# Altium integrated library Linear Technology Power Management System Supervisor, Monitor and Control.IntLib: 1611 symbols (part 98 of 100)
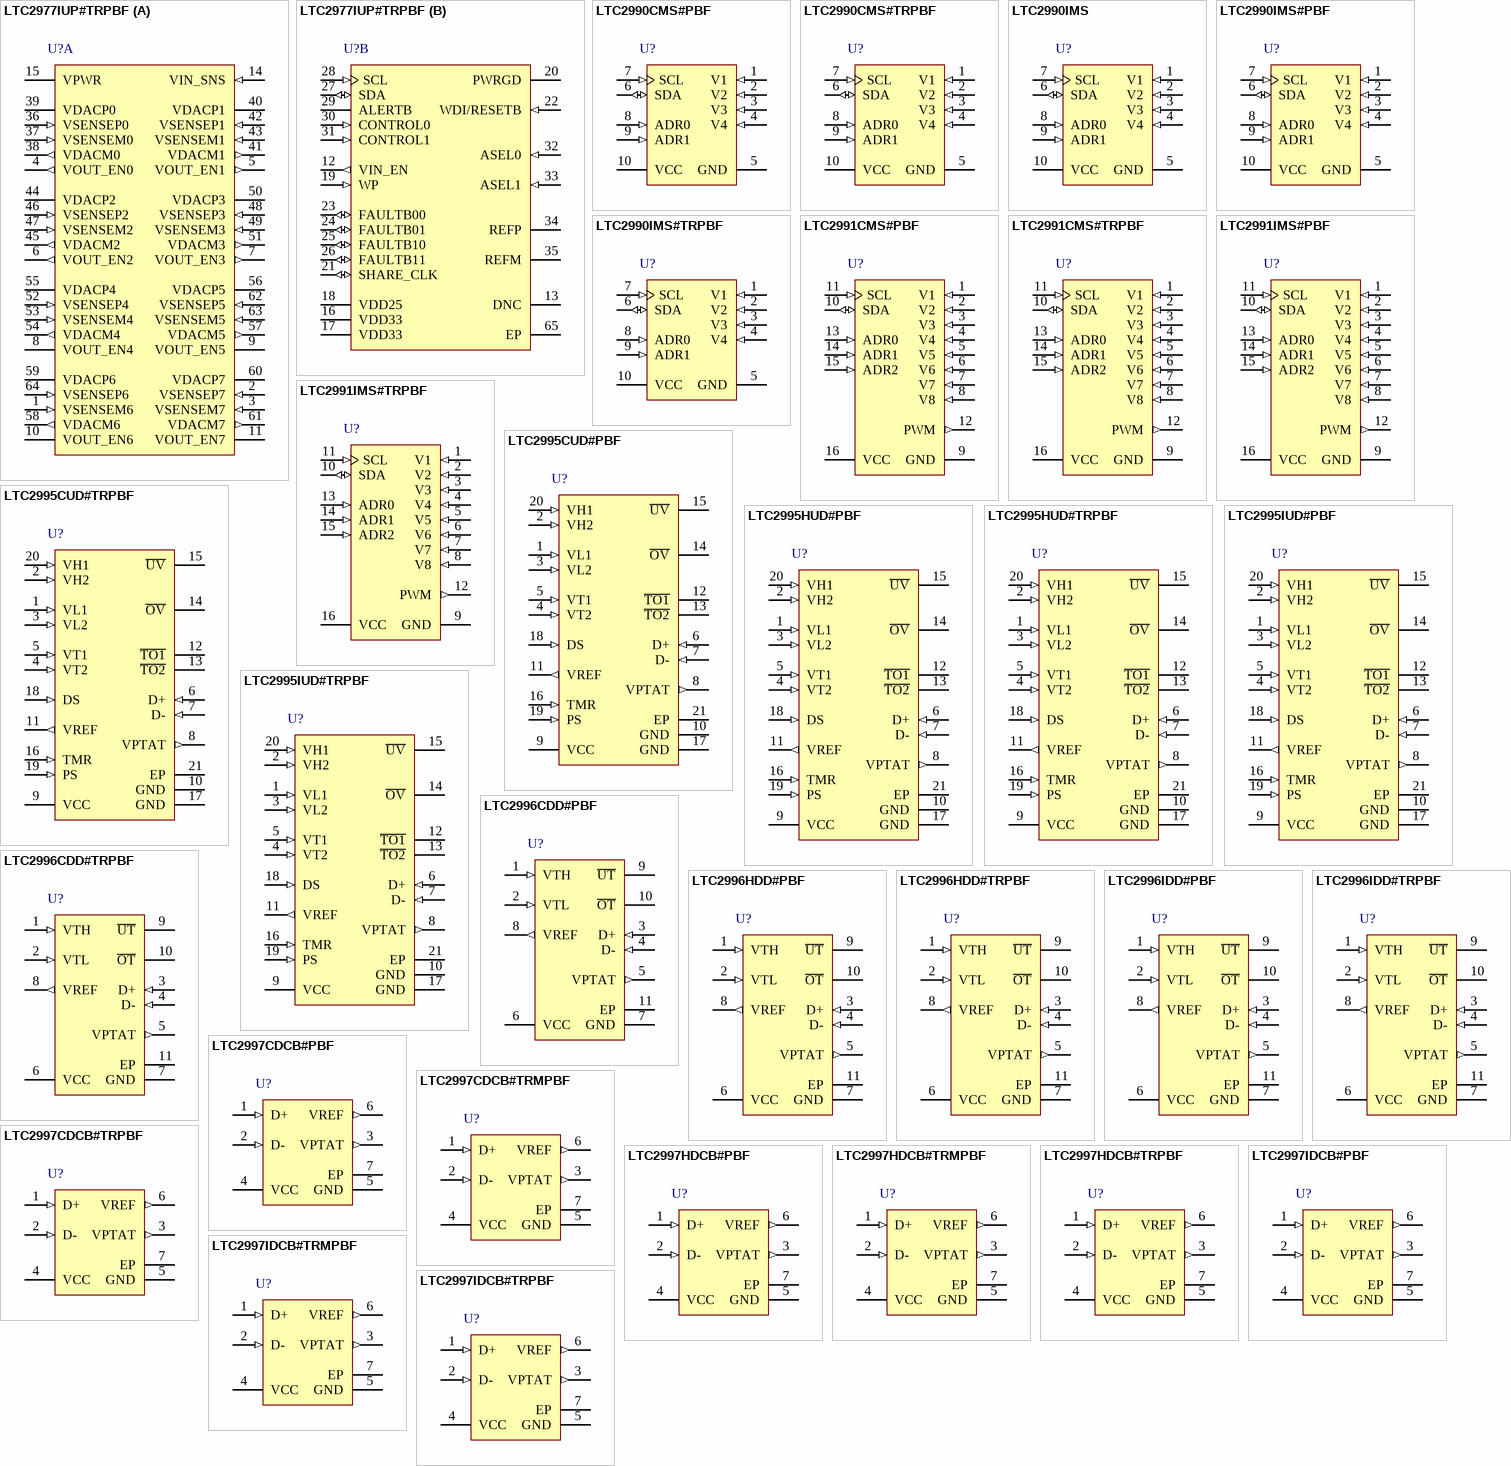
[diagram p142: symbols LTC2977IUP#TRPBF to LTC2997IDCB#TRPBF]

## LTC2990CMS#PBF
designator U?
Quad I2C Voltage, Current and Temperature Monitor, 10-pin SOP (MS-10), 0 to 70 degC, Pb-Free; Manufacturer: Linear Technology; PartNumber: LTC2990CMS#PBF; Number of Supplies(#): 4; DatasheetVersion: Rev. C; PackageVersion: Rev. E, 06/2010; PackageReference: MS-10; PackageDescription: 10-Pin Plastic MSOP, Body 3 x 3 mm, Pitch 0.5 mm; Supplier 1: Digi-Key; Supplier Part Number 1: LTC2990CMS#PBF-ND; Supplier 2: Farnell; Supplier Part Number 2: 2295456; Supplier 3: Newark; Supplier Part Number 3: 13T3887; RoHS: TRUE; Mounting Technology: Surface Mount; ComponentLink1Description: Manufacturer URL; ComponentLink1URL: http://www.linear.com/; ComponentLink2Description: Datasheet; ComponentLink2URL: http://cds.linear.com/docs/en/datasheet/2990fc.pdf; ComponentLink3Description: Package Specification; ComponentLink3URL: http://cds.linear.com/docs/en/packaging/05081661_F_MS.pdf
footprint LT-MS-10_N (SOP, 10-Leads, Body 3.1x3.1mm, Pitch 0.5mm, IPC Medium Density)
footprint LT-MS-10_L (SOP, 10-Leads, Body 3.1x3.1mm, Pitch 0.5mm, IPC High Density)
footprint LT-MS-10_M (SOP, 10-Leads, Body 3.1x3.1mm, Pitch 0.5mm, IPC Low Density)
pins: 1 V1 (in) "First Monitor Input. This pin can be configured as a single-ended input or the positive input for a differential or remote diode temperature measurement (in combination with V2). When configured for remote diode temperature, (See Datasheet)", 2 V2 (in) "Second Monitor Input. This pin can be configured as a single-ended input or the negative input for a differential or remote diode temperature measurement (in combination with V1). When configured for remote diode (See Datasheet)", 3 V3 (in) "Third Monitor Input. This pin can be configured as a single-ended input or the positive input for a differential or remote diode temperature measurement (in combination with V4). When configured for remote diode temperature, (See Datasheet)", 4 V4 (in) "Fourth Monitor Input. This pin can be configured as a single-ended input or the negative input for a differential or remote diode temperature measurement (in combination with V3). When configured for remote diode (See Datasheet)", 5 GND (power) "Device Circuit Ground. Connect this pin to a ground plane through a low impedance connection.", 6 SDA (io) "Serial Bus Data Input and Output. In the transmitter mode (Read), the conversion result is output through the SDA pin, while in the receiver mode (Write), the device confi guration bits are input through the SDA pin. At data (See Datasheet)", 7 SCL (in) "Serial Bus Clock Input. The LTC2990 can only act as a slave and the SCL pin only accepts external serial clock. The LTC2990 does not implement clock stretching.", 8 ADR0 (in) "Serial Bus Address Control Input. The ADR0 pin is an address control bit for the device I2C address. See Table 2.", 9 ADR1 (in) "Serial Bus Address Control Input. The ADR1 pin is an address control bit for the device I2C address. See Table 2.", 10 VCC (power) "Supply Voltage Input."

## LTC2990CMS#TRPBF
designator U?
Quad I2C Voltage, Current and Temperature Monitor, 10-pin SOP (MS-10), 0 to 70 degC, Pb-Free, Tape and Reel; Manufacturer: Linear Technology; PartNumber: LTC2990CMS#TRPBF; Number of Supplies(#): 4; DatasheetVersion: Rev. C; PackageVersion: Rev. E, 06/2010; PackageReference: MS-10; PackageDescription: 10-Pin Plastic MSOP, Body 3 x 3 mm, Pitch 0.5 mm; Supplier 1: Digi-Key; Supplier Part Number 1: LTC2990CMS#TRPBF-ND; Supplier 2: Newark; Supplier Part Number 2: 13T3888; Packing: Tape and Reel; RoHS: TRUE; Mounting Technology: Surface Mount; ComponentLink1Description: Manufacturer URL; ComponentLink1URL: http://www.linear.com/; ComponentLink2Description: Datasheet; ComponentLink2URL: http://cds.linear.com/docs/en/datasheet/2990fc.pdf; ComponentLink3Description: Package Specification; ComponentLink3URL: http://cds.linear.com/docs/en/packaging/05081661_F_MS.pdf
footprint LT-MS-10_N (SOP, 10-Leads, Body 3.1x3.1mm, Pitch 0.5mm, IPC Medium Density)
footprint LT-MS-10_L (SOP, 10-Leads, Body 3.1x3.1mm, Pitch 0.5mm, IPC High Density)
footprint LT-MS-10_M (SOP, 10-Leads, Body 3.1x3.1mm, Pitch 0.5mm, IPC Low Density)
pins: 1 V1 (in) "First Monitor Input. This pin can be configured as a single-ended input or the positive input for a differential or remote diode temperature measurement (in combination with V2). When configured for remote diode temperature, (See Datasheet)", 2 V2 (in) "Second Monitor Input. This pin can be configured as a single-ended input or the negative input for a differential or remote diode temperature measurement (in combination with V1). When configured for remote diode (See Datasheet)", 3 V3 (in) "Third Monitor Input. This pin can be configured as a single-ended input or the positive input for a differential or remote diode temperature measurement (in combination with V4). When configured for remote diode temperature, (See Datasheet)", 4 V4 (in) "Fourth Monitor Input. This pin can be configured as a single-ended input or the negative input for a differential or remote diode temperature measurement (in combination with V3). When configured for remote diode (See Datasheet)", 5 GND (power) "Device Circuit Ground. Connect this pin to a ground plane through a low impedance connection.", 6 SDA (io) "Serial Bus Data Input and Output. In the transmitter mode (Read), the conversion result is output through the SDA pin, while in the receiver mode (Write), the device confi guration bits are input through the SDA pin. At data (See Datasheet)", 7 SCL (in) "Serial Bus Clock Input. The LTC2990 can only act as a slave and the SCL pin only accepts external serial clock. The LTC2990 does not implement clock stretching.", 8 ADR0 (in) "Serial Bus Address Control Input. The ADR0 pin is an address control bit for the device I2C address. See Table 2.", 9 ADR1 (in) "Serial Bus Address Control Input. The ADR1 pin is an address control bit for the device I2C address. See Table 2.", 10 VCC (power) "Supply Voltage Input."

## LTC2990IMS
designator U?
Quad I2C Voltage, Current and Temperature Monitor, 10-pin SOP (MS-10), -40 to 85 degC; Manufacturer: Linear Technology; PartNumber: LTC2990IMS; Number of Supplies(#): 4; DatasheetVersion: Rev. C; PackageVersion: Rev. E, 06/2010; PackageReference: MS-10; PackageDescription: 10-Pin Plastic MSOP, Body 3 x 3 mm, Pitch 0.5 mm; RoHS: FALSE; Mounting Technology: Surface Mount; ComponentLink1Description: Manufacturer URL; ComponentLink1URL: http://www.linear.com/; ComponentLink2Description: Datasheet; ComponentLink2URL: http://cds.linear.com/docs/en/datasheet/2990fc.pdf; ComponentLink3Description: Package Specification; ComponentLink3URL: http://cds.linear.com/docs/en/packaging/05081661_F_MS.pdf
footprint LT-MS-10_N (SOP, 10-Leads, Body 3.1x3.1mm, Pitch 0.5mm, IPC Medium Density)
footprint LT-MS-10_L (SOP, 10-Leads, Body 3.1x3.1mm, Pitch 0.5mm, IPC High Density)
footprint LT-MS-10_M (SOP, 10-Leads, Body 3.1x3.1mm, Pitch 0.5mm, IPC Low Density)
pins: 1 V1 (in) "First Monitor Input. This pin can be configured as a single-ended input or the positive input for a differential or remote diode temperature measurement (in combination with V2). When configured for remote diode temperature, (See Datasheet)", 2 V2 (in) "Second Monitor Input. This pin can be configured as a single-ended input or the negative input for a differential or remote diode temperature measurement (in combination with V1). When configured for remote diode (See Datasheet)", 3 V3 (in) "Third Monitor Input. This pin can be configured as a single-ended input or the positive input for a differential or remote diode temperature measurement (in combination with V4). When configured for remote diode temperature, (See Datasheet)", 4 V4 (in) "Fourth Monitor Input. This pin can be configured as a single-ended input or the negative input for a differential or remote diode temperature measurement (in combination with V3). When configured for remote diode (See Datasheet)", 5 GND (power) "Device Circuit Ground. Connect this pin to a ground plane through a low impedance connection.", 6 SDA (io) "Serial Bus Data Input and Output. In the transmitter mode (Read), the conversion result is output through the SDA pin, while in the receiver mode (Write), the device confi guration bits are input through the SDA pin. At data (See Datasheet)", 7 SCL (in) "Serial Bus Clock Input. The LTC2990 can only act as a slave and the SCL pin only accepts external serial clock. The LTC2990 does not implement clock stretching.", 8 ADR0 (in) "Serial Bus Address Control Input. The ADR0 pin is an address control bit for the device I2C address. See Table 2.", 9 ADR1 (in) "Serial Bus Address Control Input. The ADR1 pin is an address control bit for the device I2C address. See Table 2.", 10 VCC (power) "Supply Voltage Input."

## LTC2990IMS#PBF
designator U?
Quad I2C Voltage, Current and Temperature Monitor, 10-pin SOP (MS-10), -40 to 85 degC, Pb-Free; Manufacturer: Linear Technology; PartNumber: LTC2990IMS#PBF; Number of Supplies(#): 4; DatasheetVersion: Rev. C; PackageVersion: Rev. E, 06/2010; PackageReference: MS-10; PackageDescription: 10-Pin Plastic MSOP, Body 3 x 3 mm, Pitch 0.5 mm; Supplier 1: Digi-Key; Supplier Part Number 1: LTC2990IMS#PBF-ND; Supplier 2: Farnell; Supplier Part Number 2: 1898629; Supplier 3: Newark; Supplier Part Number 3: 13T3889; RoHS: TRUE; Mounting Technology: Surface Mount; ComponentLink1Description: Manufacturer URL; ComponentLink1URL: http://www.linear.com/; ComponentLink2Description: Datasheet; ComponentLink2URL: http://cds.linear.com/docs/en/datasheet/2990fc.pdf; ComponentLink3Description: Package Specification; ComponentLink3URL: http://cds.linear.com/docs/en/packaging/05081661_F_MS.pdf
footprint LT-MS-10_N (SOP, 10-Leads, Body 3.1x3.1mm, Pitch 0.5mm, IPC Medium Density)
footprint LT-MS-10_L (SOP, 10-Leads, Body 3.1x3.1mm, Pitch 0.5mm, IPC High Density)
footprint LT-MS-10_M (SOP, 10-Leads, Body 3.1x3.1mm, Pitch 0.5mm, IPC Low Density)
pins: 1 V1 (in) "First Monitor Input. This pin can be configured as a single-ended input or the positive input for a differential or remote diode temperature measurement (in combination with V2). When configured for remote diode temperature, (See Datasheet)", 2 V2 (in) "Second Monitor Input. This pin can be configured as a single-ended input or the negative input for a differential or remote diode temperature measurement (in combination with V1). When configured for remote diode (See Datasheet)", 3 V3 (in) "Third Monitor Input. This pin can be configured as a single-ended input or the positive input for a differential or remote diode temperature measurement (in combination with V4). When configured for remote diode temperature, (See Datasheet)", 4 V4 (in) "Fourth Monitor Input. This pin can be configured as a single-ended input or the negative input for a differential or remote diode temperature measurement (in combination with V3). When configured for remote diode (See Datasheet)", 5 GND (power) "Device Circuit Ground. Connect this pin to a ground plane through a low impedance connection.", 6 SDA (io) "Serial Bus Data Input and Output. In the transmitter mode (Read), the conversion result is output through the SDA pin, while in the receiver mode (Write), the device confi guration bits are input through the SDA pin. At data (See Datasheet)", 7 SCL (in) "Serial Bus Clock Input. The LTC2990 can only act as a slave and the SCL pin only accepts external serial clock. The LTC2990 does not implement clock stretching.", 8 ADR0 (in) "Serial Bus Address Control Input. The ADR0 pin is an address control bit for the device I2C address. See Table 2.", 9 ADR1 (in) "Serial Bus Address Control Input. The ADR1 pin is an address control bit for the device I2C address. See Table 2.", 10 VCC (power) "Supply Voltage Input."

## LTC2990IMS#TRPBF
designator U?
Quad I2C Voltage, Current and Temperature Monitor, 10-pin SOP (MS-10), -40 to 85 degC, Pb-Free, Tape and Reel; Manufacturer: Linear Technology; PartNumber: LTC2990IMS#TRPBF; Number of Supplies(#): 4; DatasheetVersion: Rev. C; PackageVersion: Rev. E, 06/2010; PackageReference: MS-10; PackageDescription: 10-Pin Plastic MSOP, Body 3 x 3 mm, Pitch 0.5 mm; Supplier 1: Digi-Key; Supplier Part Number 1: LTC2990IMS#TRPBF-ND; Supplier 2: Newark; Supplier Part Number 2: 13T3890; Packing: Tape and Reel; RoHS: TRUE; Mounting Technology: Surface Mount; ComponentLink1Description: Manufacturer URL; ComponentLink1URL: http://www.linear.com/; ComponentLink2Description: Datasheet; ComponentLink2URL: http://cds.linear.com/docs/en/datasheet/2990fc.pdf; ComponentLink3Description: Package Specification; ComponentLink3URL: http://cds.linear.com/docs/en/packaging/05081661_F_MS.pdf
footprint LT-MS-10_N (SOP, 10-Leads, Body 3.1x3.1mm, Pitch 0.5mm, IPC Medium Density)
footprint LT-MS-10_L (SOP, 10-Leads, Body 3.1x3.1mm, Pitch 0.5mm, IPC High Density)
footprint LT-MS-10_M (SOP, 10-Leads, Body 3.1x3.1mm, Pitch 0.5mm, IPC Low Density)
pins: 1 V1 (in) "First Monitor Input. This pin can be configured as a single-ended input or the positive input for a differential or remote diode temperature measurement (in combination with V2). When configured for remote diode temperature, (See Datasheet)", 2 V2 (in) "Second Monitor Input. This pin can be configured as a single-ended input or the negative input for a differential or remote diode temperature measurement (in combination with V1). When configured for remote diode (See Datasheet)", 3 V3 (in) "Third Monitor Input. This pin can be configured as a single-ended input or the positive input for a differential or remote diode temperature measurement (in combination with V4). When configured for remote diode temperature, (See Datasheet)", 4 V4 (in) "Fourth Monitor Input. This pin can be configured as a single-ended input or the negative input for a differential or remote diode temperature measurement (in combination with V3). When configured for remote diode (See Datasheet)", 5 GND (power) "Device Circuit Ground. Connect this pin to a ground plane through a low impedance connection.", 6 SDA (io) "Serial Bus Data Input and Output. In the transmitter mode (Read), the conversion result is output through the SDA pin, while in the receiver mode (Write), the device confi guration bits are input through the SDA pin. At data (See Datasheet)", 7 SCL (in) "Serial Bus Clock Input. The LTC2990 can only act as a slave and the SCL pin only accepts external serial clock. The LTC2990 does not implement clock stretching.", 8 ADR0 (in) "Serial Bus Address Control Input. The ADR0 pin is an address control bit for the device I2C address. See Table 2.", 9 ADR1 (in) "Serial Bus Address Control Input. The ADR1 pin is an address control bit for the device I2C address. See Table 2.", 10 VCC (power) "Supply Voltage Input."

## LTC2991CMS#PBF
designator U?
Octal I2C Voltage, Current, and Temperature Monitor, 16-pin SOP (MS-16), 0 to 70 degC, Pb-Free; Manufacturer: Linear Technology; PartNumber: LTC2991CMS#PBF; Number of Supplies(#): 8; DatasheetVersion: Rev. B; PackageVersion: Rev. Ø, 06/2010; PackageReference: MS16; PackageDescription: 16-Pin Plastic MSOP, Body 4.04 x 3.00 mm, Pitch 0.50 mm; Supplier 1: Digi-Key; Supplier Part Number 1: LTC2991CMS#PBF-ND; Supplier 2: Farnell; Supplier Part Number 2: 2009071; Supplier 3: Newark; Supplier Part Number 3: 59T5575; RoHS: TRUE; Mounting Technology: Surface Mount; ComponentLink1Description: Manufacturer URL; ComponentLink1URL: http://www.linear.com/; ComponentLink2Description: Datasheet; ComponentLink2URL: http://cds.linear.com/docs/en/datasheet/2991fb.pdf; ComponentLink3Description: Package Specification; ComponentLink3URL: http://cds.linear.com/docs/en/packaging/05081669_A_MS16.pdf
footprint LT-MS-16_N (SOP, 16-Leads, Body 4.1x3.1mm, Pitch 0.5mm, IPC Medium Density)
footprint LT-MS-16_L (SOP, 16-Leads, Body 4.1x3.1mm, Pitch 0.5mm, IPC High Density)
footprint LT-MS-16_M (SOP, 16-Leads, Body 4.1x3.1mm, Pitch 0.5mm, IPC Low Density)
pins: 1 V1 (in) "First Monitor Input. This pin can be configured as a single-ended input (0V to 4.9V) or the positive input for a differential or remote diode temperature measurement (in combination with V2). Differential common mode range (See Datasheet)", 2 V2 (in) "Second Monitor Input. This pin can be configured as a single-ended input (0V to 4.9V) or the negative input for a differential or remote diode temperature measurement (in combination with V1). Differential common mode range (See Datasheet)", 3 V3 (in) "Third Monitor Input. This pin can be configured as a single-ended input (0V to 4.9V) or the positive input for a differential or remote diode temperature measurement (in combination with V4). Differential common mode range (See Datasheet)", 4 V4 (in) "Fourth Monitor Input. This pin can be configured as a single-ended input (0V to 4.9V) or the negative input for a differential or remote diode temperature measurement (in combination with V3). Differential common mode range (See Datasheet)", 5 V5 (in) "Fifth Monitor Input. This pin can be configured as a single-ended input (0V to 4.9V) or the positive input for a differential or remote diode temperature measurement (in combination with V6). Differential common mode range (See Datasheet)", 6 V6 (in) "Sixth Monitor Input. This pin can be configured as a single-ended input (0V to 4.9V) or the negative input for a differential or remote diode temperature measurement (in combination with V5). Differential common mode range (See Datasheet)", 7 V7 (in) "Seventh Monitor Input. This pin can be configured as a single-ended input (0V to 4.9V) or the positive input for a differential or remote diode temperature measurement (in combination with V8). Differential common mode range (See Datasheet)", 8 V8 (in) "Eighth Monitor Input. This pin can be configured as a single-ended input (0V to 4.9V) or the negative input for a differential or remote diode temperature measurement (in combination with V7). Differential common mode range (See Datasheet)", 9 GND (power) "Device Ground. Connect this pin through a low impedance connection to system ground.", 10 SDA (io) "Serial Bus Data Input and Output. In the transmitter mode (read), the conversion result is output through the SDA pin, while in the receiver mode (write), the device configuration bits are input through the SDA pin. At data (See Datasheet)", 11 SCL (in) "Serial Bus Clock Input of the I2C Interface. The LTC2991 can only act as a slave and the SCL pin only accepts external serial clock. The LTC2991 does not implement clock stretching.", 12 PWM (out) "PWM Output. The PWM pin provides a CMOS output level with a duty cycle proportional to the remote diode temperature of the sensor connected to pins V7 and V8.", 13 ADR0 (in) "Serial Bus Address Control Input. The ADR pins are address control bits for the device I2C address.", 14 ADR1 (in) "Serial Bus Address Control Input. The ADR pins are address control bits for the device I2C address.", 15 ADR2 (in) "Serial Bus Address Control Input. The ADR pins are address control bits for the device I2C address.", 16 VCC (power) "Chip Power. Connect to 2.9V to 5.5V low noise supply. A 0.1uF decoupling capacitor to GND is required for this pin."

## LTC2991CMS#TRPBF
designator U?
Octal I2C Voltage, Current, and Temperature Monitor, 16-pin SOP (MS-16), 0 to 70 degC, Pb-Free, Tape and Reel; Manufacturer: Linear Technology; PartNumber: LTC2991CMS#TRPBF; Number of Supplies(#): 8; DatasheetVersion: Rev. B; PackageVersion: Rev. Ø, 06/2010; PackageReference: MS16; PackageDescription: 16-Pin Plastic MSOP, Body 4.04 x 3.00 mm, Pitch 0.50 mm; Supplier 1: Digi-Key; Supplier Part Number 1: LTC2991CMS#TRPBF-ND; Supplier 2: Newark; Supplier Part Number 2: 59T5576; Packing: Tape and Reel; RoHS: TRUE; Mounting Technology: Surface Mount; ComponentLink1Description: Manufacturer URL; ComponentLink1URL: http://www.linear.com/; ComponentLink2Description: Datasheet; ComponentLink2URL: http://cds.linear.com/docs/en/datasheet/2991fb.pdf; ComponentLink3Description: Package Specification; ComponentLink3URL: http://cds.linear.com/docs/en/packaging/05081669_A_MS16.pdf
footprint LT-MS-16_N (SOP, 16-Leads, Body 4.1x3.1mm, Pitch 0.5mm, IPC Medium Density)
footprint LT-MS-16_L (SOP, 16-Leads, Body 4.1x3.1mm, Pitch 0.5mm, IPC High Density)
footprint LT-MS-16_M (SOP, 16-Leads, Body 4.1x3.1mm, Pitch 0.5mm, IPC Low Density)
pins: 1 V1 (in) "First Monitor Input. This pin can be configured as a single-ended input (0V to 4.9V) or the positive input for a differential or remote diode temperature measurement (in combination with V2). Differential common mode range (See Datasheet)", 2 V2 (in) "Second Monitor Input. This pin can be configured as a single-ended input (0V to 4.9V) or the negative input for a differential or remote diode temperature measurement (in combination with V1). Differential common mode range (See Datasheet)", 3 V3 (in) "Third Monitor Input. This pin can be configured as a single-ended input (0V to 4.9V) or the positive input for a differential or remote diode temperature measurement (in combination with V4). Differential common mode range (See Datasheet)", 4 V4 (in) "Fourth Monitor Input. This pin can be configured as a single-ended input (0V to 4.9V) or the negative input for a differential or remote diode temperature measurement (in combination with V3). Differential common mode range (See Datasheet)", 5 V5 (in) "Fifth Monitor Input. This pin can be configured as a single-ended input (0V to 4.9V) or the positive input for a differential or remote diode temperature measurement (in combination with V6). Differential common mode range (See Datasheet)", 6 V6 (in) "Sixth Monitor Input. This pin can be configured as a single-ended input (0V to 4.9V) or the negative input for a differential or remote diode temperature measurement (in combination with V5). Differential common mode range (See Datasheet)", 7 V7 (in) "Seventh Monitor Input. This pin can be configured as a single-ended input (0V to 4.9V) or the positive input for a differential or remote diode temperature measurement (in combination with V8). Differential common mode range (See Datasheet)", 8 V8 (in) "Eighth Monitor Input. This pin can be configured as a single-ended input (0V to 4.9V) or the negative input for a differential or remote diode temperature measurement (in combination with V7). Differential common mode range (See Datasheet)", 9 GND (power) "Device Ground. Connect this pin through a low impedance connection to system ground.", 10 SDA (io) "Serial Bus Data Input and Output. In the transmitter mode (read), the conversion result is output through the SDA pin, while in the receiver mode (write), the device configuration bits are input through the SDA pin. At data (See Datasheet)", 11 SCL (in) "Serial Bus Clock Input of the I2C Interface. The LTC2991 can only act as a slave and the SCL pin only accepts external serial clock. The LTC2991 does not implement clock stretching.", 12 PWM (out) "PWM Output. The PWM pin provides a CMOS output level with a duty cycle proportional to the remote diode temperature of the sensor connected to pins V7 and V8.", 13 ADR0 (in) "Serial Bus Address Control Input. The ADR pins are address control bits for the device I2C address.", 14 ADR1 (in) "Serial Bus Address Control Input. The ADR pins are address control bits for the device I2C address.", 15 ADR2 (in) "Serial Bus Address Control Input. The ADR pins are address control bits for the device I2C address.", 16 VCC (power) "Chip Power. Connect to 2.9V to 5.5V low noise supply. A 0.1uF decoupling capacitor to GND is required for this pin."

## LTC2991IMS#PBF
designator U?
Octal I2C Voltage, Current, and Temperature Monitor, 16-pin SOP (MS-16), -40 to 85 degC, Pb-Free; Manufacturer: Linear Technology; PartNumber: LTC2991IMS#PBF; Number of Supplies(#): 8; DatasheetVersion: Rev. B; PackageVersion: Rev. Ø, 06/2010; PackageReference: MS16; PackageDescription: 16-Pin Plastic MSOP, Body 4.04 x 3.00 mm, Pitch 0.50 mm; Supplier 1: Digi-Key; Supplier Part Number 1: LTC2991IMS#PBF-ND; Supplier 2: Farnell; Supplier Part Number 2: 2308601; Supplier 3: Newark; Supplier Part Number 3: 59T5577; RoHS: TRUE; Mounting Technology: Surface Mount; ComponentLink1Description: Manufacturer URL; ComponentLink1URL: http://www.linear.com/; ComponentLink2Description: Datasheet; ComponentLink2URL: http://cds.linear.com/docs/en/datasheet/2991fb.pdf; ComponentLink3Description: Package Specification; ComponentLink3URL: http://cds.linear.com/docs/en/packaging/05081669_A_MS16.pdf
footprint LT-MS-16_N (SOP, 16-Leads, Body 4.1x3.1mm, Pitch 0.5mm, IPC Medium Density)
footprint LT-MS-16_L (SOP, 16-Leads, Body 4.1x3.1mm, Pitch 0.5mm, IPC High Density)
footprint LT-MS-16_M (SOP, 16-Leads, Body 4.1x3.1mm, Pitch 0.5mm, IPC Low Density)
pins: 1 V1 (in) "First Monitor Input. This pin can be configured as a single-ended input (0V to 4.9V) or the positive input for a differential or remote diode temperature measurement (in combination with V2). Differential common mode range (See Datasheet)", 2 V2 (in) "Second Monitor Input. This pin can be configured as a single-ended input (0V to 4.9V) or the negative input for a differential or remote diode temperature measurement (in combination with V1). Differential common mode range (See Datasheet)", 3 V3 (in) "Third Monitor Input. This pin can be configured as a single-ended input (0V to 4.9V) or the positive input for a differential or remote diode temperature measurement (in combination with V4). Differential common mode range (See Datasheet)", 4 V4 (in) "Fourth Monitor Input. This pin can be configured as a single-ended input (0V to 4.9V) or the negative input for a differential or remote diode temperature measurement (in combination with V3). Differential common mode range (See Datasheet)", 5 V5 (in) "Fifth Monitor Input. This pin can be configured as a single-ended input (0V to 4.9V) or the positive input for a differential or remote diode temperature measurement (in combination with V6). Differential common mode range (See Datasheet)", 6 V6 (in) "Sixth Monitor Input. This pin can be configured as a single-ended input (0V to 4.9V) or the negative input for a differential or remote diode temperature measurement (in combination with V5). Differential common mode range (See Datasheet)", 7 V7 (in) "Seventh Monitor Input. This pin can be configured as a single-ended input (0V to 4.9V) or the positive input for a differential or remote diode temperature measurement (in combination with V8). Differential common mode range (See Datasheet)", 8 V8 (in) "Eighth Monitor Input. This pin can be configured as a single-ended input (0V to 4.9V) or the negative input for a differential or remote diode temperature measurement (in combination with V7). Differential common mode range (See Datasheet)", 9 GND (power) "Device Ground. Connect this pin through a low impedance connection to system ground.", 10 SDA (io) "Serial Bus Data Input and Output. In the transmitter mode (read), the conversion result is output through the SDA pin, while in the receiver mode (write), the device configuration bits are input through the SDA pin. At data (See Datasheet)", 11 SCL (in) "Serial Bus Clock Input of the I2C Interface. The LTC2991 can only act as a slave and the SCL pin only accepts external serial clock. The LTC2991 does not implement clock stretching.", 12 PWM (out) "PWM Output. The PWM pin provides a CMOS output level with a duty cycle proportional to the remote diode temperature of the sensor connected to pins V7 and V8.", 13 ADR0 (in) "Serial Bus Address Control Input. The ADR pins are address control bits for the device I2C address.", 14 ADR1 (in) "Serial Bus Address Control Input. The ADR pins are address control bits for the device I2C address.", 15 ADR2 (in) "Serial Bus Address Control Input. The ADR pins are address control bits for the device I2C address.", 16 VCC (power) "Chip Power. Connect to 2.9V to 5.5V low noise supply. A 0.1uF decoupling capacitor to GND is required for this pin."

## LTC2991IMS#TRPBF
designator U?
Octal I2C Voltage, Current, and Temperature Monitor, 16-pin SOP (MS-16), -40 to 85 degC, Pb-Free, Tape and Reel; Manufacturer: Linear Technology; PartNumber: LTC2991IMS#TRPBF; Number of Supplies(#): 8; DatasheetVersion: Rev. B; PackageVersion: Rev. Ø, 06/2010; PackageReference: MS16; PackageDescription: 16-Pin Plastic MSOP, Body 4.04 x 3.00 mm, Pitch 0.50 mm; Supplier 1: Digi-Key; Supplier Part Number 1: LTC2991IMS#TRPBF-ND; Supplier 2: Newark; Supplier Part Number 2: 59T5578; Packing: Tape and Reel; RoHS: TRUE; Mounting Technology: Surface Mount; ComponentLink1Description: Manufacturer URL; ComponentLink1URL: http://www.linear.com/; ComponentLink2Description: Datasheet; ComponentLink2URL: http://cds.linear.com/docs/en/datasheet/2991fb.pdf; ComponentLink3Description: Package Specification; ComponentLink3URL: http://cds.linear.com/docs/en/packaging/05081669_A_MS16.pdf
footprint LT-MS-16_N (SOP, 16-Leads, Body 4.1x3.1mm, Pitch 0.5mm, IPC Medium Density)
footprint LT-MS-16_L (SOP, 16-Leads, Body 4.1x3.1mm, Pitch 0.5mm, IPC High Density)
footprint LT-MS-16_M (SOP, 16-Leads, Body 4.1x3.1mm, Pitch 0.5mm, IPC Low Density)
pins: 1 V1 (in) "First Monitor Input. This pin can be configured as a single-ended input (0V to 4.9V) or the positive input for a differential or remote diode temperature measurement (in combination with V2). Differential common mode range (See Datasheet)", 2 V2 (in) "Second Monitor Input. This pin can be configured as a single-ended input (0V to 4.9V) or the negative input for a differential or remote diode temperature measurement (in combination with V1). Differential common mode range (See Datasheet)", 3 V3 (in) "Third Monitor Input. This pin can be configured as a single-ended input (0V to 4.9V) or the positive input for a differential or remote diode temperature measurement (in combination with V4). Differential common mode range (See Datasheet)", 4 V4 (in) "Fourth Monitor Input. This pin can be configured as a single-ended input (0V to 4.9V) or the negative input for a differential or remote diode temperature measurement (in combination with V3). Differential common mode range (See Datasheet)", 5 V5 (in) "Fifth Monitor Input. This pin can be configured as a single-ended input (0V to 4.9V) or the positive input for a differential or remote diode temperature measurement (in combination with V6). Differential common mode range (See Datasheet)", 6 V6 (in) "Sixth Monitor Input. This pin can be configured as a single-ended input (0V to 4.9V) or the negative input for a differential or remote diode temperature measurement (in combination with V5). Differential common mode range (See Datasheet)", 7 V7 (in) "Seventh Monitor Input. This pin can be configured as a single-ended input (0V to 4.9V) or the positive input for a differential or remote diode temperature measurement (in combination with V8). Differential common mode range (See Datasheet)", 8 V8 (in) "Eighth Monitor Input. This pin can be configured as a single-ended input (0V to 4.9V) or the negative input for a differential or remote diode temperature measurement (in combination with V7). Differential common mode range (See Datasheet)", 9 GND (power) "Device Ground. Connect this pin through a low impedance connection to system ground.", 10 SDA (io) "Serial Bus Data Input and Output. In the transmitter mode (read), the conversion result is output through the SDA pin, while in the receiver mode (write), the device configuration bits are input through the SDA pin. At data (See Datasheet)", 11 SCL (in) "Serial Bus Clock Input of the I2C Interface. The LTC2991 can only act as a slave and the SCL pin only accepts external serial clock. The LTC2991 does not implement clock stretching.", 12 PWM (out) "PWM Output. The PWM pin provides a CMOS output level with a duty cycle proportional to the remote diode temperature of the sensor connected to pins V7 and V8.", 13 ADR0 (in) "Serial Bus Address Control Input. The ADR pins are address control bits for the device I2C address.", 14 ADR1 (in) "Serial Bus Address Control Input. The ADR pins are address control bits for the device I2C address.", 15 ADR2 (in) "Serial Bus Address Control Input. The ADR pins are address control bits for the device I2C address.", 16 VCC (power) "Chip Power. Connect to 2.9V to 5.5V low noise supply. A 0.1uF decoupling capacitor to GND is required for this pin."

## LTC2995CUD#PBF
designator U?
Temperature Sensor and Dual Voltage Monitor with Alert Outputs, 20-pin QFN (UD-20), 0 to 70 degC, Pb-Free; Manufacturer: Linear Technology; PartNumber: LTC2995CUD#PBF; Number of Supplies(#): 2; PackageVersion: Rev. A, 06/2010; PackageReference: UD-20; PackageDescription: 20-Pin Plastic QFN, Body 3 x 3 mm, Pitch 0.4 mm; Supplier 1: Digi-Key; Supplier Part Number 1: LTC2995CUD#PBF-ND; RoHS: TRUE; Mounting Technology: Surface Mount; ComponentLink1Description: Manufacturer URL; ComponentLink1URL: http://www.linear.com/; ComponentLink2Description: Datasheet; ComponentLink2URL: http://cds.linear.com/docs/en/datasheet/2995f.pdf; ComponentLink3Description: Package Specification; ComponentLink3URL: http://cds.linear.com/docs/en/packaging/QFN_20_05-08-1720.pdf
footprint LT-UD-20_N (QFN, 20-Leads, Body 3.1x3.1mm, Pitch 0.4mm, Thermal Pad 1.65x1.65mm, IPC Medium Density)
footprint LT-UD-20_L (QFN, 20-Leads, Body 3.1x3.1mm, Pitch 0.4mm, Thermal Pad 1.65x1.65mm, IPC High Density)
footprint LT-UD-20_M (QFN, 20-Leads, Body 3.1x3.1mm, Pitch 0.4mm, Thermal Pad 1.65x1.65mm, IPC Low Density)
pins: 1 VL1 (in) "Voltage Low Inputs 1 and 2. When the voltage on either pin is above 0.5V, an overvoltage condition is triggered. Tie pin to GND if unused.", 2 VH2 (in) "Voltage High Inputs 1 and 2. When the voltage on either pin is below 0.5V, an undervoltage condition is triggered. Tie pin to VCC if unused.", 3 VL2 (in) "Voltage Low Inputs 1 and 2. When the voltage on either pin is above 0.5V, an overvoltage condition is triggered. Tie pin to GND if unused.", 4 VT2 (in) "Temperature Threshold 2. When VPTAT crosses the voltage on VT2 with a polarity set by the PS pin, T\O\2 is pulled low. Tie VT2 to VCC if unused.", 5 VT1 (in) "Temperature Threshold 1. When VPTAT crosses the voltage on VT1 with a polarity set by the PS pin, T\O\1\ is pulled low. Tie VT1 to GND if unused.", 6 D+ (in) "Diode Sense Current Source. D+ sources the remote diode sensing current. Connect D+ to the anode of the remote sensor device. It is recommended to connect a 470pF bypass capacitor between D+ and D-. Larger capacitors may (See Datasheet)", 7 D- (in) "Diode Sense Current Sink. Connect D- to the cathode of the remote sensor device. Tie D- to GND for single wire remote temperature measurement (see Applications Information) or internal temperature sensing.", 8 VPTAT (out) "Proportional to Absolute Temperature Voltage Output. The voltage on this pin is proportional to the selected sensor absolute temperature. An internal or external sensor is chosen with the DS pin. VPTAT can drive up t(See Datasheet)", 9 VCC (power) "Supply Voltage. Bypass this pin to GND with a 0.1uF (or greater) capacitor. VCC operating range is 2.25V to 5.5V.", 10 GND (power) "Device Ground", 11 VREF (out) "Voltage Reference Output. VREF provides a 1.8V reference voltage. VREF can drive up to +/-200uA of load current and up to 1000pF of capacitive load. For larger load capacitances insert 1kohm between VREF and the load to (See Datasheet)", 12 ~{TO1} (oc) "Temperature Logic Output 1. Open drain logic output that pulls to GND when VPTAT crosses the threshold voltage on pin VT1 with a polarity set by the PS pin (see Table 3 in Applications Information). When VPTAT crosses the (See Datasheet)", 13 ~{TO2} (oc) "Temperature Logic Output 2. Open drain logic output that pulls to GND when VPTAT crosses the threshold voltage on pin VT2 with a polarity set by the PS pin (see Table 3 in Applications Information). When VPTAT crosses the (See Datasheet)", 14 ~{OV} (oc) "Overvoltage Logic Output. Open drain logic output that pulls to GND when either the voltage at VL1 or VL2 is above 0.5V. Held low for a programmable delay time set by the capacitor connected to pin TMR. O\V\ has a weak 400 (See Datasheet)", 15 ~{UV} (oc) "Undervoltage Logic Output. Open drain logic output that pulls to GND when either the voltage at VH1 or VH2 is below 0.5V. Held low for an adjustable delay time set by the capacitor connected to pin TMR. UV has a weak 400 (See Datasheet)", 16 TMR (in) "Reset Delay Timer. Attach an external capacitor (CTMR) to GND to set the delay time until alerts on T\O\1\, T\O\2\, U\V\ and O\V\ are reset. Leaving the pin open generates a minimum delay of 500us. Capacitance on this pin (See Datasheet)", 17 GND (power) "Device Ground", 18 DS (in) "Diode Select Input. Three state pin that selects temperature sensor location. Tie DS to VCC to monitor the temperature of the internal diode or to GND to monitor the temperature of the external diode. When DS is left (See Datasheet)", 19 PS (in) "Polarity Select Input. Selects the polarity of temperature thresholds VT1 and VT2. Connect PS to VCC to configure VT1 as undertemperature and VT2 as overtemperature threshold. Leave PS unconnected to configure both VT1 and (See Datasheet)", 20 VH1 (in) "Voltage High Inputs 1 and 2. When the voltage on either pin is below 0.5V, an undervoltage condition is triggered. Tie pin to VCC if unused.", 21 EP (power) "Exposed pad may be left open or soldered to GND for better thermal coupling."

## LTC2995CUD#TRPBF
designator U?
Temperature Sensor and Dual Voltage Monitor with Alert Outputs, 20-pin QFN (UD-20), 0 to 70 degC, Pb-Free, Tape and Reel; Manufacturer: Linear Technology; PartNumber: LTC2995CUD#TRPBF; Number of Supplies(#): 2; PackageVersion: Rev. A, 06/2010; PackageReference: UD-20; PackageDescription: 20-Pin Plastic QFN, Body 3 x 3 mm, Pitch 0.4 mm; Supplier 1: Digi-Key; Supplier Part Number 1: LTC2995CUD#TRPBF-ND; Packing: Tape and Reel; RoHS: TRUE; Mounting Technology: Surface Mount; ComponentLink1Description: Manufacturer URL; ComponentLink1URL: http://www.linear.com/; ComponentLink2Description: Datasheet; ComponentLink2URL: http://cds.linear.com/docs/en/datasheet/2995f.pdf; ComponentLink3Description: Package Specification; ComponentLink3URL: http://cds.linear.com/docs/en/packaging/QFN_20_05-08-1720.pdf
footprint LT-UD-20_N (QFN, 20-Leads, Body 3.1x3.1mm, Pitch 0.4mm, Thermal Pad 1.65x1.65mm, IPC Medium Density)
footprint LT-UD-20_L (QFN, 20-Leads, Body 3.1x3.1mm, Pitch 0.4mm, Thermal Pad 1.65x1.65mm, IPC High Density)
footprint LT-UD-20_M (QFN, 20-Leads, Body 3.1x3.1mm, Pitch 0.4mm, Thermal Pad 1.65x1.65mm, IPC Low Density)
pins: 1 VL1 (in) "Voltage Low Inputs 1 and 2. When the voltage on either pin is above 0.5V, an overvoltage condition is triggered. Tie pin to GND if unused.", 2 VH2 (in) "Voltage High Inputs 1 and 2. When the voltage on either pin is below 0.5V, an undervoltage condition is triggered. Tie pin to VCC if unused.", 3 VL2 (in) "Voltage Low Inputs 1 and 2. When the voltage on either pin is above 0.5V, an overvoltage condition is triggered. Tie pin to GND if unused.", 4 VT2 (in) "Temperature Threshold 2. When VPTAT crosses the voltage on VT2 with a polarity set by the PS pin, T\O\2 is pulled low. Tie VT2 to VCC if unused.", 5 VT1 (in) "Temperature Threshold 1. When VPTAT crosses the voltage on VT1 with a polarity set by the PS pin, T\O\1\ is pulled low. Tie VT1 to GND if unused.", 6 D+ (in) "Diode Sense Current Source. D+ sources the remote diode sensing current. Connect D+ to the anode of the remote sensor device. It is recommended to connect a 470pF bypass capacitor between D+ and D-. Larger capacitors may (See Datasheet)", 7 D- (in) "Diode Sense Current Sink. Connect D- to the cathode of the remote sensor device. Tie D- to GND for single wire remote temperature measurement (see Applications Information) or internal temperature sensing.", 8 VPTAT (out) "Proportional to Absolute Temperature Voltage Output. The voltage on this pin is proportional to the selected sensor absolute temperature. An internal or external sensor is chosen with the DS pin. VPTAT can drive up t(See Datasheet)", 9 VCC (power) "Supply Voltage. Bypass this pin to GND with a 0.1uF (or greater) capacitor. VCC operating range is 2.25V to 5.5V.", 10 GND (power) "Device Ground", 11 VREF (out) "Voltage Reference Output. VREF provides a 1.8V reference voltage. VREF can drive up to +/-200uA of load current and up to 1000pF of capacitive load. For larger load capacitances insert 1kohm between VREF and the load to (See Datasheet)", 12 ~{TO1} (oc) "Temperature Logic Output 1. Open drain logic output that pulls to GND when VPTAT crosses the threshold voltage on pin VT1 with a polarity set by the PS pin (see Table 3 in Applications Information). When VPTAT crosses the (See Datasheet)", 13 ~{TO2} (oc) "Temperature Logic Output 2. Open drain logic output that pulls to GND when VPTAT crosses the threshold voltage on pin VT2 with a polarity set by the PS pin (see Table 3 in Applications Information). When VPTAT crosses the (See Datasheet)", 14 ~{OV} (oc) "Overvoltage Logic Output. Open drain logic output that pulls to GND when either the voltage at VL1 or VL2 is above 0.5V. Held low for a programmable delay time set by the capacitor connected to pin TMR. O\V\ has a weak 400 (See Datasheet)", 15 ~{UV} (oc) "Undervoltage Logic Output. Open drain logic output that pulls to GND when either the voltage at VH1 or VH2 is below 0.5V. Held low for an adjustable delay time set by the capacitor connected to pin TMR. UV has a weak 400 (See Datasheet)", 16 TMR (in) "Reset Delay Timer. Attach an external capacitor (CTMR) to GND to set the delay time until alerts on T\O\1\, T\O\2\, U\V\ and O\V\ are reset. Leaving the pin open generates a minimum delay of 500us. Capacitance on this pin (See Datasheet)", 17 GND (power) "Device Ground", 18 DS (in) "Diode Select Input. Three state pin that selects temperature sensor location. Tie DS to VCC to monitor the temperature of the internal diode or to GND to monitor the temperature of the external diode. When DS is left (See Datasheet)", 19 PS (in) "Polarity Select Input. Selects the polarity of temperature thresholds VT1 and VT2. Connect PS to VCC to configure VT1 as undertemperature and VT2 as overtemperature threshold. Leave PS unconnected to configure both VT1 and (See Datasheet)", 20 VH1 (in) "Voltage High Inputs 1 and 2. When the voltage on either pin is below 0.5V, an undervoltage condition is triggered. Tie pin to VCC if unused.", 21 EP (power) "Exposed pad may be left open or soldered to GND for better thermal coupling."

## LTC2995HUD#PBF
designator U?
Temperature Sensor and Dual Voltage Monitor with Alert Outputs, 20-pin QFN (UD-20), -40 to 125 degC, Pb-Free; Manufacturer: Linear Technology; PartNumber: LTC2995HUD#PBF; Number of Supplies(#): 2; PackageVersion: Rev. A, 06/2010; PackageReference: UD-20; PackageDescription: 20-Pin Plastic QFN, Body 3 x 3 mm, Pitch 0.4 mm; Supplier 1: Digi-Key; Supplier Part Number 1: LTC2995HUD#PBF-ND; RoHS: TRUE; Mounting Technology: Surface Mount; ComponentLink1Description: Manufacturer URL; ComponentLink1URL: http://www.linear.com/; ComponentLink2Description: Datasheet; ComponentLink2URL: http://cds.linear.com/docs/en/datasheet/2995f.pdf; ComponentLink3Description: Package Specification; ComponentLink3URL: http://cds.linear.com/docs/en/packaging/QFN_20_05-08-1720.pdf
footprint LT-UD-20_N (QFN, 20-Leads, Body 3.1x3.1mm, Pitch 0.4mm, Thermal Pad 1.65x1.65mm, IPC Medium Density)
footprint LT-UD-20_L (QFN, 20-Leads, Body 3.1x3.1mm, Pitch 0.4mm, Thermal Pad 1.65x1.65mm, IPC High Density)
footprint LT-UD-20_M (QFN, 20-Leads, Body 3.1x3.1mm, Pitch 0.4mm, Thermal Pad 1.65x1.65mm, IPC Low Density)
pins: 1 VL1 (in) "Voltage Low Inputs 1 and 2. When the voltage on either pin is above 0.5V, an overvoltage condition is triggered. Tie pin to GND if unused.", 2 VH2 (in) "Voltage High Inputs 1 and 2. When the voltage on either pin is below 0.5V, an undervoltage condition is triggered. Tie pin to VCC if unused.", 3 VL2 (in) "Voltage Low Inputs 1 and 2. When the voltage on either pin is above 0.5V, an overvoltage condition is triggered. Tie pin to GND if unused.", 4 VT2 (in) "Temperature Threshold 2. When VPTAT crosses the voltage on VT2 with a polarity set by the PS pin, T\O\2 is pulled low. Tie VT2 to VCC if unused.", 5 VT1 (in) "Temperature Threshold 1. When VPTAT crosses the voltage on VT1 with a polarity set by the PS pin, T\O\1\ is pulled low. Tie VT1 to GND if unused.", 6 D+ (in) "Diode Sense Current Source. D+ sources the remote diode sensing current. Connect D+ to the anode of the remote sensor device. It is recommended to connect a 470pF bypass capacitor between D+ and D-. Larger capacitors may (See Datasheet)", 7 D- (in) "Diode Sense Current Sink. Connect D- to the cathode of the remote sensor device. Tie D- to GND for single wire remote temperature measurement (see Applications Information) or internal temperature sensing.", 8 VPTAT (out) "Proportional to Absolute Temperature Voltage Output. The voltage on this pin is proportional to the selected sensor absolute temperature. An internal or external sensor is chosen with the DS pin. VPTAT can drive up t(See Datasheet)", 9 VCC (power) "Supply Voltage. Bypass this pin to GND with a 0.1uF (or greater) capacitor. VCC operating range is 2.25V to 5.5V.", 10 GND (power) "Device Ground", 11 VREF (out) "Voltage Reference Output. VREF provides a 1.8V reference voltage. VREF can drive up to +/-200uA of load current and up to 1000pF of capacitive load. For larger load capacitances insert 1kohm between VREF and the load to (See Datasheet)", 12 ~{TO1} (oc) "Temperature Logic Output 1. Open drain logic output that pulls to GND when VPTAT crosses the threshold voltage on pin VT1 with a polarity set by the PS pin (see Table 3 in Applications Information). When VPTAT crosses the (See Datasheet)", 13 ~{TO2} (oc) "Temperature Logic Output 2. Open drain logic output that pulls to GND when VPTAT crosses the threshold voltage on pin VT2 with a polarity set by the PS pin (see Table 3 in Applications Information). When VPTAT crosses the (See Datasheet)", 14 ~{OV} (oc) "Overvoltage Logic Output. Open drain logic output that pulls to GND when either the voltage at VL1 or VL2 is above 0.5V. Held low for a programmable delay time set by the capacitor connected to pin TMR. O\V\ has a weak 400 (See Datasheet)", 15 ~{UV} (oc) "Undervoltage Logic Output. Open drain logic output that pulls to GND when either the voltage at VH1 or VH2 is below 0.5V. Held low for an adjustable delay time set by the capacitor connected to pin TMR. UV has a weak 400 (See Datasheet)", 16 TMR (in) "Reset Delay Timer. Attach an external capacitor (CTMR) to GND to set the delay time until alerts on T\O\1\, T\O\2\, U\V\ and O\V\ are reset. Leaving the pin open generates a minimum delay of 500us. Capacitance on this pin (See Datasheet)", 17 GND (power) "Device Ground", 18 DS (in) "Diode Select Input. Three state pin that selects temperature sensor location. Tie DS to VCC to monitor the temperature of the internal diode or to GND to monitor the temperature of the external diode. When DS is left (See Datasheet)", 19 PS (in) "Polarity Select Input. Selects the polarity of temperature thresholds VT1 and VT2. Connect PS to VCC to configure VT1 as undertemperature and VT2 as overtemperature threshold. Leave PS unconnected to configure both VT1 and (See Datasheet)", 20 VH1 (in) "Voltage High Inputs 1 and 2. When the voltage on either pin is below 0.5V, an undervoltage condition is triggered. Tie pin to VCC if unused.", 21 EP (power) "Exposed pad may be left open or soldered to GND for better thermal coupling."